# EAGLE library part TIVA (library aetel)
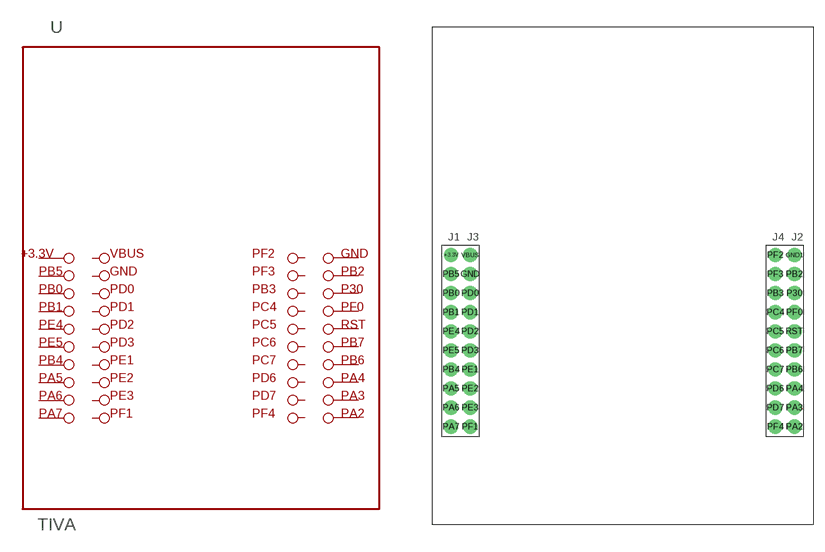
[diagram p0: symbol with the pads of TIVACSERIES; footprint TIVACSERIES]

Designator prefix -

## TIVA  [TIVACSERIES]
+3.3V  3.3V
GND  GND
GND1  GND2
P30  P30
PA2  PA2
PA3  PA3
PA4  PA4
PA5  PA5
PA6  PA6
PA7  PA7
PB0  PB0
PB1  PB1
PB2  PB2
PB3  PB3
PB4  PB4
PB5  PB5
PB6  PB6
PB7  PB7
PC4  PC4
PC5  PC5
PC6  PC6
PC7  PC7
PD0  PD0
PD1  PD1
PD2  PD2
PD3  PD3
PD6  PD6
PD7  PD7
PE1  PE1
PE2  PE2
PE3  PE3
PE4  PE4
PE5  PE5
PF0  PF0
PF1  PF1
PF2  PF2
PF3  PF3
PF4  PF4
RST  RST
VBUS  VBUS  pas

## Footprint TIVACSERIES (pad centres in mm)
TIVA C Series
drill 1.016 pad 1.88: +3.3V -22.86,11.43; GND -20.32,8.89; GND1 22.86,11.43; P30 22.86,6.35; PA2 22.86,-11.43; PA3 22.86,-8.89; PA4 22.86,-6.35; PA5 -22.86,-6.35; PA6 -22.86,-8.89; PA7 -22.86,-11.43; PB0 -22.86,6.35; PB1 -22.86,3.81; PB2 22.86,8.89; PB3 20.32,6.35; PB4 -22.86,-3.81; PB5 -22.86,8.89; PB6 22.86,-3.81; PB7 22.86,-1.27; PC4 20.32,3.81; PC5 20.32,1.27; PC6 20.32,-1.27; PC7 20.32,-3.81; PD0 -20.32,6.35; PD1 -20.32,3.81; PD2 -20.32,1.27; PD3 -20.32,-1.27; PD6 20.32,-6.35; PD7 20.32,-8.89; PE1 -20.32,-3.81; PE2 -20.32,-6.35; PE3 -20.32,-8.89; PE4 -22.86,1.27; PE5 -22.86,-1.27; PF0 22.86,3.81; PF1 -20.32,-11.43; PF2 20.32,11.43; PF3 20.32,8.89; PF4 20.32,-11.43; RST 22.86,1.27; VBUS -20.32,11.43